# EAGLE library part ESP32-S3-USBC (library ESP32)
ESP32 S3 WROOM-1
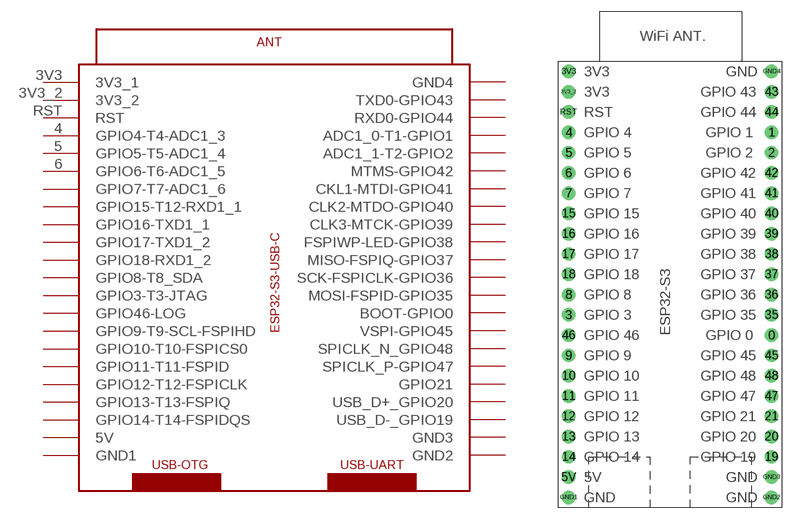
[diagram p3: symbol with the pads of ESP32-S3-USBC; footprint ESP32-S3-USBC]

Designator prefix -

## ESP32-S3-USBC (WROOM-1: ESP32)  [ESP32-S3-USBC]
0  BOOT-GPIO0
1  ADC1_0-T1-GPIO1
2  ADC1_1-T2-GPIO2
3  GPIO3-T3-JTAG
3V3  3V3_1  pwr
3V3_2  3V3_2  pwr
4  GPIO4-T4-ADC1_3
5  GPIO5-T5-ADC1_4
5V  5V  pwr
6  GPIO6-T6-ADC1_5
7  GPIO7-T7-ADC1_6
8  GPIO8-T8_SDA
9  GPIO9-T9-SCL-FSPIHD
10  GPIO10-T10-FSPICS0
11  GPIO11-T11-FSPID
12  GPIO12-T12-FSPICLK
13  GPIO13-T13-FSPIQ
14  GPIO14-T14-FSPIDQS
15  GPIO15-T12-RXD1_1
16  GPIO16-TXD1_1
17  GPIO17-TXD1_2
18  GPIO18-RXD1_2
19  USB_D-_GPIO19
20  USB_D+_GPIO20
21  GPIO21
35  MOSI-FSPID-GPIO35
36  SCK-FSPICLK-GPIO36
37  MISO-FSPIQ-GPIO37
38  FSPIWP-LED-GPIO38
39  CLK3-MTCK-GPIO39
40  CLK2-MTDO-GPIO40
41  CKL1-MTDI-GPIO41
42  MTMS-GPIO42
43  TXD0-GPIO43
44  RXD0-GPIO44
45  VSPI-GPIO45
46  GPIO46-LOG
47  SPICLK_P-GPIO47
48  SPICLK_N_GPIO48
GND1  GND1  pwr
GND2  GND2  pwr
GND3  GND3  pwr
GND4  GND4  pwr
RST  RST

## Footprint ESP32-S3-USBC (pad centres in mm)
ESP32-S3-WROOM-1 with 2x USB-C (UART+OTG)
drill 0.9 pad 1.676: 0 12.7,-5.08; 1 12.7,20.32; 2 12.7,17.78; 3 -12.7,-2.54; 3V3 -12.7,27.94; 3V3_2 -12.7,25.4; 4 -12.7,20.32; 5 -12.7,17.78; 5V -12.7,-22.86; 6 -12.7,15.24; 7 -12.7,12.7; 8 -12.7,0; 9 -12.7,-7.62; 10 -12.7,-10.16; 11 -12.7,-12.7; 12 -12.7,-15.24; 13 -12.7,-17.78; 14 -12.7,-20.32; 15 -12.7,10.16; 16 -12.7,7.62; 17 -12.7,5.08; 18 -12.7,2.54; 19 12.7,-20.32; 20 12.7,-17.78; 21 12.7,-15.24; 35 12.7,-2.54; 36 12.7,0; 37 12.7,2.54; 38 12.7,5.08; 39 12.7,7.62; 40 12.7,10.16; 41 12.7,12.7; 42 12.7,15.24; 43 12.7,25.4; 44 12.7,22.86; 45 12.7,-7.62; 46 -12.7,-5.08; 47 12.7,-12.7; 48 12.7,-10.16; GND1 -12.7,-25.4; GND2 12.7,-25.4; GND3 12.7,-22.86; GND4 12.7,27.94; RST -12.7,22.86